# Altium footprint library LPEDT_project_library.PcbLib: 22 footprints (part 2 of 2)
Each footprint in its own frame and in the unit in brackets; x right, y up, seen from the top. Pads: shape width x height; smd on the part's side, far side on the other; paste and mask are expansions set on the pad; w line width, h text height; cw(c..) or ccw(c..) is an arc to the next point about the centre after c.
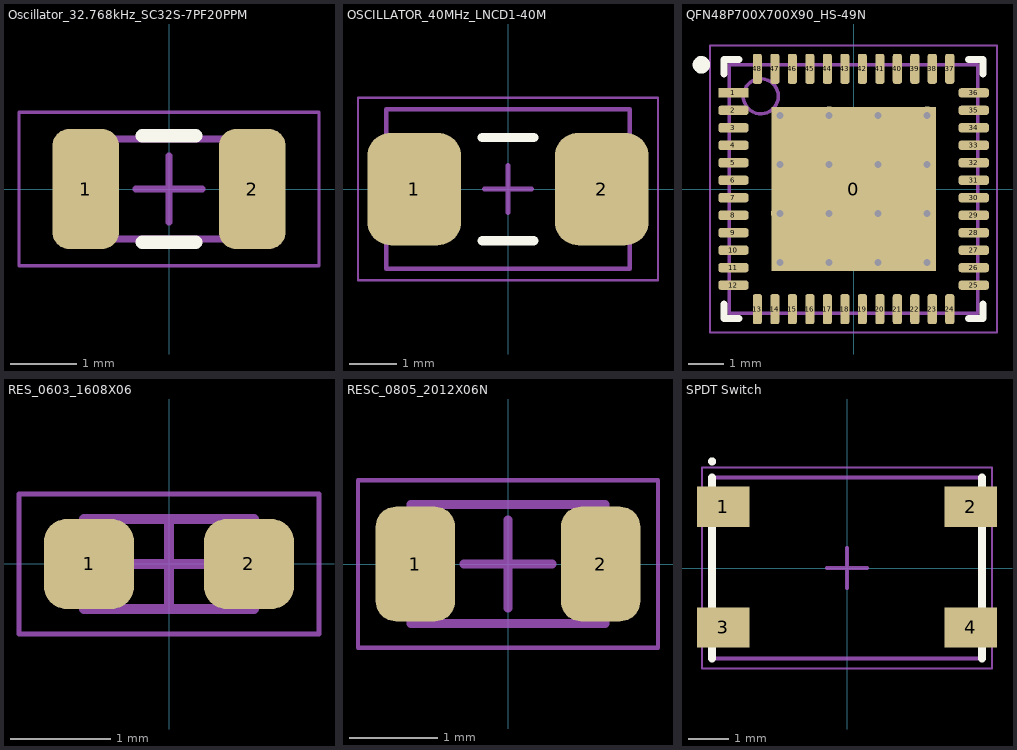
[diagram p1: the footprints below, top view; thin cyan lines are the x and y axes]

## Oscillator_32.768kHz_SC32S-7PF20PPM [mm] "32.768 kHz ±20ppm Crystal 7pF 70 kOhms 2-SMD, No Lead"
height 0.85
pads (2):
  rrect50% 1x1.8 smd: 1(-1.25,0) 2(1.25,0)
Top Overlay:
  lines w0.2: -0.4,-0.8 0.4,-0.8 ; -0.4,0.8 0.4,0.8
Mechanical 13:
  lines w0.1: -1.65,-0.75 -1.65,0.75 1.65,0.75 1.65,-0.75 -1.65,-0.75
Mechanical 15:
  lines w0.05: -2.25,-1.15 -2.25,1.15 2.25,1.15 2.25,-1.15 -2.25,-1.15
  lines w0.1: -0.5,0 0.5,0 ; 0,-0.5 0,0.5
3D body: height 0.85, standoff 0, extent -0.87,-0.75 0.87,0.75
3D body: height 0.85, standoff 0, extent -1.65,-0.75 -0.87,0.75
3D body: height 0.85, standoff 0, extent 0.87,-0.75 1.65,0.75
3D body "XTAL_SC32S-7PF20PPM_EPS.step": height 0.84, standoff 0, extent -1.651,-0.8 1.651,0.8

## OSCILLATOR_40MHz_LNCD1-40M [mm] "40 MHz ±50ppm Crystal 8pF 50 Ohms 2-SMD, No Lead"
height 1.5
pads (2):
  rrect50% 2x2.4 smd: 1(-2,0) 2(2,0)
Top Overlay:
  lines w0.2: -0.55,-1.1 0.55,-1.1 ; -0.55,1.1 0.55,1.1
Mechanical 13:
  lines w0.1: -2.6,-1.7 2.6,-1.7 2.6,1.7 -2.6,1.7 -2.6,-1.7
Mechanical 15:
  lines w0.05: -3.2,-1.95 -3.2,1.95 3.2,1.95 3.2,-1.95 -3.2,-1.95
  lines w0.1: -0.5,0 0.5,0 ; 0,-0.5 0,0.5
3D body "NX5032GA-40.000000MHZ-LN-CD-1 (1).STEP": height 1.5, standoff 0, extent -2.5,-1.6 2.5,1.6

## QFN48P700X700X90_HS-49N [mm] "QFN, 48-Leads, Body 7.00x7.00mm, Pitch 0.50mm, Thermal Pad 4.70x4.70mm, IPC Medium Density"
height 0.9
pads (49):
  rect 4.7x4.7 smd paste-200 mask+0.05: 0(0,0)
  rect 0.86x0.26 smd mask+0.05: 1(-3.435,2.75)
  rrect50% 0.86x0.26 smd mask+0.05: 2(-3.435,2.25) 3(-3.435,1.75) 4(-3.435,1.25) 5(-3.435,0.75) 6(-3.435,0.25) 7(-3.435,-0.25) 8(-3.435,-0.75) 9(-3.435,-1.25) 10(-3.435,-1.75) 11(-3.435,-2.25) 12(-3.435,-2.75) 25(3.435,-2.75) 26(3.435,-2.25) 27(3.435,-1.75) 28(3.435,-1.25) 29(3.435,-0.75) 30(3.435,-0.25) 31(3.435,0.25) 32(3.435,0.75) 33(3.435,1.25) 34(3.435,1.75) 35(3.435,2.25) 36(3.435,2.75)
  rrect50% 0.26x0.86 smd mask+0.05: 13(-2.75,-3.435) 14(-2.25,-3.435) 15(-1.75,-3.435) 16(-1.25,-3.435) 17(-0.75,-3.435) 18(-0.25,-3.435) 19(0.25,-3.435) 20(0.75,-3.435) 21(1.25,-3.435) 22(1.75,-3.435) 23(2.25,-3.435) 24(2.75,-3.435) 37(2.75,3.435) 38(2.25,3.435) 39(1.75,3.435) 40(1.25,3.435) 41(0.75,3.435) 42(0.25,3.435) 43(-0.25,3.435) 44(-0.75,3.435) 45(-1.25,3.435) 46(-1.75,3.435) 47(-2.25,3.435) 48(-2.75,3.435)
via -0.701,2.101 diameter 0.5 hole 0.2
via 0.7,-2.098 diameter 0.5 hole 0.2
via -0.7,-2.1 diameter 0.5 hole 0.2
via 0.699,2.101 diameter 0.5 hole 0.2
via 2.099,0.701 diameter 0.5 hole 0.2
via 2.102,-0.699 diameter 0.5 hole 0.2
via -2.103,-0.7 diameter 0.5 hole 0.2
via -2.101,0.7 diameter 0.5 hole 0.2
via -0.701,0.701 diameter 0.5 hole 0.2
via -2.099,-2.1 diameter 0.5 hole 0.2
via 2.099,-2.1 diameter 0.5 hole 0.2
via 2.1,2.101 diameter 0.5 hole 0.2
via -2.101,2.101 diameter 0.5 hole 0.2
via 0.699,0.701 diameter 0.5 hole 0.2
via -0.701,-0.7 diameter 0.5 hole 0.2
via 0.7,-0.698 diameter 0.5 hole 0.2
Top Overlay:
  circle w0.25: c-4.35,3.55 r0.125
  lines w0.2: -3.7,-3.28 -3.7,-3.7 -3.28,-3.7 ; -3.7,3.28 -3.7,3.7 -3.28,3.7 ; 3.28,-3.7 3.7,-3.7 3.7,-3.28 ; 3.28,3.7 3.7,3.7 3.7,3.28
Top Paste:
  rectangle: -0.522,-1.921 0.518,-0.881
  rectangle: -1.925,-1.922 -0.885,-0.882
  rectangle: -1.916,-0.518 -0.876,0.522
  rectangle: -0.516,-0.524 0.524,0.516
  rectangle: 0.883,-0.523 1.923,0.517
  rectangle: 0.881,-1.92 1.921,-0.88
  rectangle: 0.873,0.889 1.913,1.929
  rectangle: -0.524,0.862 0.516,1.902
  rectangle: -1.921,0.886 -0.881,1.926
Mechanical 13:
  circle w0.1: c-2.65,2.65 r0.5
  lines w0.1: -3.55,-3.55 -3.55,3.55 3.55,3.55 3.55,-3.55 -3.55,-3.55
  text ".Designator" at -3.423,-3.169 h0.76
Mechanical 15:
  lines w0.05: -4.1,-4.1 -4.1,4.1 4.1,4.1 4.1,-4.1 -4.1,-4.1
  lines w0.1: -0.5,0 0.5,0 ; 0,-0.5 0,0.5
3D body: height 0.25, standoff 0, extent -3.551,-3.551 3.551,3.551

## RES_0603_1608X06 [mm] "Chip Resistor, 2-Leads, Body 1.60x0.80mm, IPC Medium Density"
height 0.55
pads (2):
  rrect50% 0.9x0.9 smd: 1(-0.8,0) 2(0.8,0)
Mechanical 13:
  lines w0.1: -0.85,-0.45 0.85,-0.45 0.85,0.45 -0.85,0.45 -0.85,-0.45
  text ".Designator" at -0.635,-0.254 h0.4
Mechanical 15:
  lines w0.05: -1.5,-0.7 1.5,-0.7 1.5,0.7 -1.5,0.7 -1.5,-0.7
  lines w0.1: -0.45,0 0.45,0 ; 0,-0.45 0,0.45
3D body "0603_1608X05N.step": height 0.45, standoff 0, extent -0.775,-0.425 0.775,0.425

## RESC_0805_2012X06N [mm] "Chip Resistor, 2-Leads, Body 2.00x1.25mm, IPC Medium Density"
height 0.65
pads (2):
  rrect50% 0.9x1.3 smd: 1(-1.05,0) 2(1.05,0)
Mechanical 13:
  lines w0.1: -1.1,-0.675 1.1,-0.675 1.1,0.675 -1.1,0.675 -1.1,-0.675
  text ".Designator" at -0.914,-0.483 h0.4
Mechanical 15:
  lines w0.05: -1.7,-0.95 1.7,-0.95 1.7,0.95 -1.7,0.95 -1.7,-0.95
  lines w0.1: -0.5,0 0.5,0 ; 0,-0.5 0,0.5
3D body "RESC2012X06N.step": height 0.65, standoff 0, extent -1.1,-0.675 1.1,0.675

## SPDT Switch [mm] "DFN, 4-Leads, Body 4.50x6.50mm, Pitch 3.20mm, IPC Medium Density"
height 5
pads (4):
  rect 1.3x1 smd: 1(-3.075,1.525) 2(3.075,1.525) 3(-3.075,-1.475) 4(3.075,-1.475)
Top Overlay:
  circle w0.1: c-3.35,2.65 r0.05
  lines w0.2: -3.35,-2.25 -3.35,2.25 ; 3.35,-2.25 3.35,2.25
Mechanical 13:
  lines w0.1: -3.35,-2.25 3.35,-2.25 3.35,2.25 -3.35,2.25 -3.35,-2.25
Mechanical 15:
  lines w0.05: -3.6,-2.5 3.6,-2.5 3.6,2.5 -3.6,2.5 -3.6,-2.5
  lines w0.1: -0.5,0 0.5,0 ; 0,-0.5 0,0.5
3D body "PTS_647_SN50_SMTR2_LFS.step": height 5, standoff 0, extent -3.25,-2.25 3.25,2.25